# Altium footprint library SOT95P251X112-3N.PcbLib: 1 footprints
Each footprint in its own frame and in the unit in brackets; x right, y up, seen from the top. Pads: shape width x height; smd on the part's side, far side on the other; paste and mask are expansions set on the pad; w line width, h text height; cw(c..) or ccw(c..) is an arc to the next point about the centre after c.
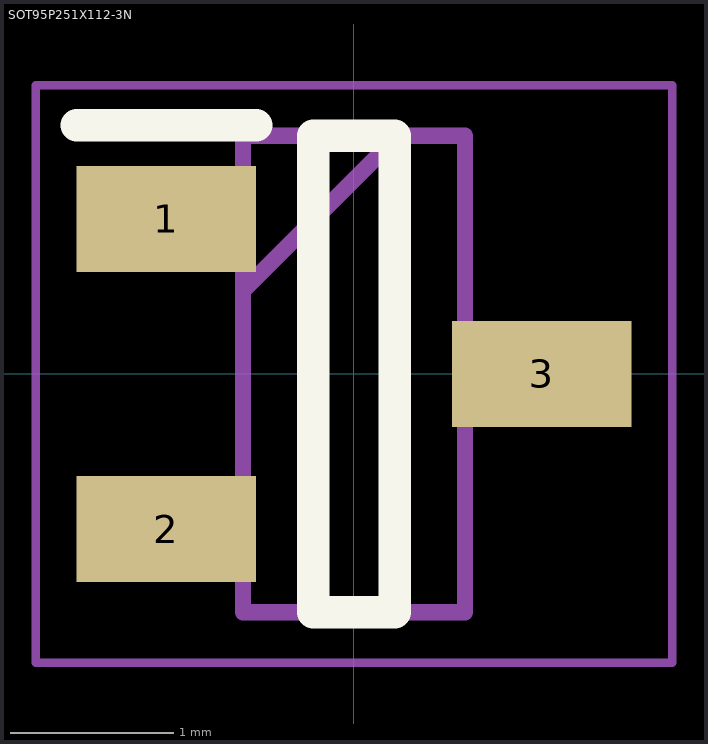
[diagram p0: the footprint, top view; thin cyan lines are the x and y axes]

## SOT95P251X112-3N [mm]
pads (3):
  rect 1.1x0.65 smd: 1(-1.15,0.95) 2(-1.15,-0.95) 3(1.15,0)
Top Overlay:
  lines w0.2: -1.7,1.525 -0.6,1.525 ; -0.25,-1.46 0.25,-1.46 0.25,1.46 -0.25,1.46 -0.25,-1.46
Mechanical 15:
  lines w0.1: -0.68,0.51 0.27,1.46 ; -0.68,-1.46 0.68,-1.46 0.68,1.46 -0.68,1.46 -0.68,-1.46
Mechanical 20:
  lines w0.05: -1.95,-1.77 1.95,-1.77 1.95,1.77 -1.95,1.77 -1.95,-1.77